# Altium schematic symbol library MS90C104.Schlib: 1 symbol
Pins are listed as number, name and electrical type; pins without a type are passive.

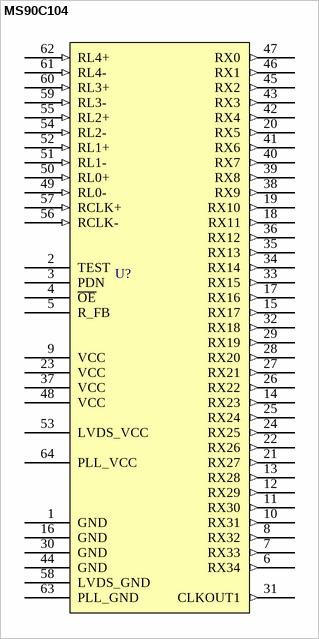
[diagram p0: symbol MS90C104]

## MS90C104
designator U?
175MHz 30bits COLOR LVDS Receiver
pins: 1 GND (power), 2 TEST, 3 PDN, 4 ~{OE}, 5 R_FB, 6 RX34 (out), 7 RX33 (out), 8 RX32 (out), 9 VCC (power), 10 RX31 (out), 11 RX30 (out), 12 RX29 (out), 13 RX28 (out), 14 RX23 (out), 15 RX17 (out), 16 GND (power), 17 RX16 (out), 18 RX11 (out), 19 RX10 (out), 20 RX5 (out), 21 RX27 (out), 22 RX26 (out), 23 VCC (power), 24 RX25 (out), 25 RX24 (out), 26 RX22 (out), 27 RX21 (out), 28 RX20 (out), 29 RX19 (out), 30 GND (power), 31 CLKOUT1 (out), 32 RX18 (out), 33 RX15 (out), 34 RX14 (out), 35 RX13 (out), 36 RX12 (out), 37 VCC (power), 38 RX9 (out), 39 RX8 (out), 40 RX7 (out), 41 RX6 (out), 42 RX4 (out), 43 RX3 (out), 44 GND (power), 45 RX2 (out), 46 RX1 (out), 47 RX0 (out), 48 VCC (power), 49 RL0- (in), 50 RL0+ (in), 51 RL1- (in), 52 RL1+ (in), 53 LVDS_VCC (power), 54 RL2- (in), 55 RL2+ (in), 56 RCLK- (in), 57 RCLK+ (in), 58 LVDS_GND (power), 59 RL3- (in), 60 RL3+ (in), 61 RL4- (in), 62 RL4+ (in), 63 PLL_GND (power), 64 PLL_VCC (power)